# EAGLE library part XC2C32A-VQ44/CP56 (library kmod-xilinx)
XC2C32A, with support for the VQ44 and CP56 footprints
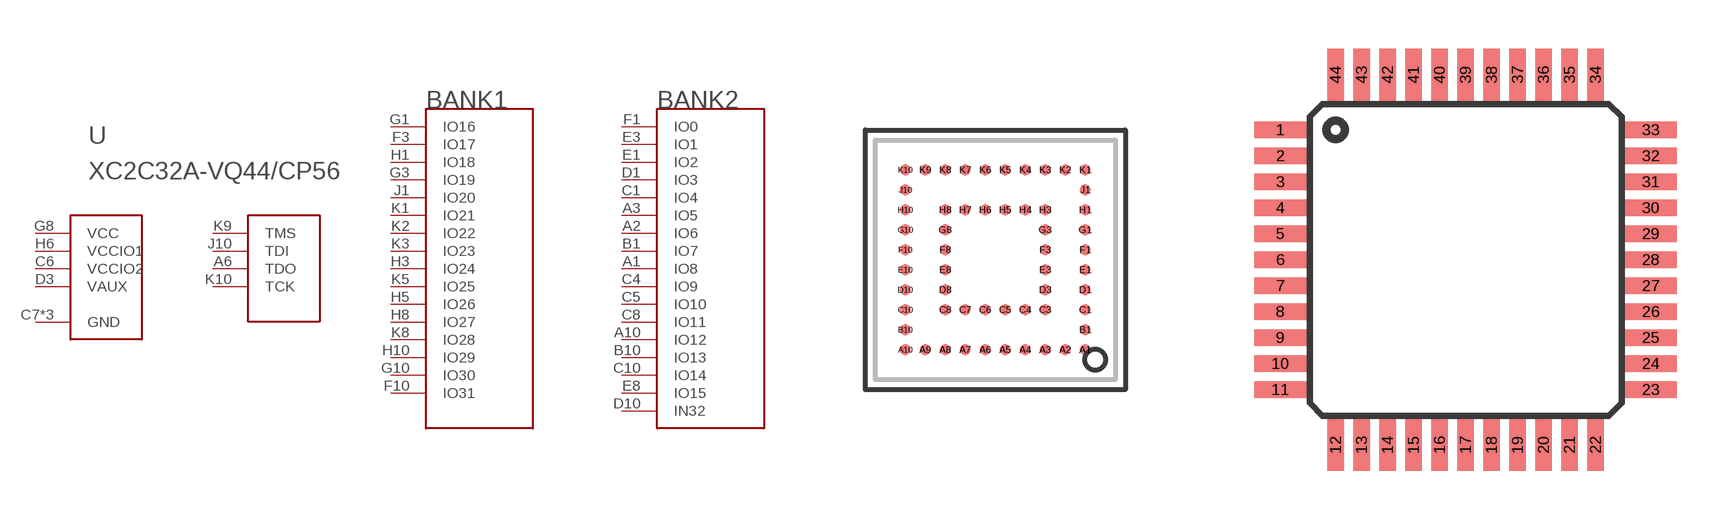
[diagram p0: symbol with the pads of XILINX_CP56; footprints XILINX_CP56, XILINX_VQ44]

Designator prefix -

## XC2C32A-VQ44/CP56CP56  [XILINX_CP56]
A1  IO8
A2  IO6
A3  IO5
A6  TDO
A10  IO12
B1  IO7
B10  IO13
C1  IO4
C4  IO9
C5  IO10
C6  VCCIO2
C7  GND
C8  IO11
C10  IO14
D1  IO3
D3  VAUX
D10  IN32
E1  IO2
E3  IO1
E8  IO15
F1  IO0
F3  IO17
F8  GND
F10  IO31
G1  IO16
G3  IO19
G8  VCC
G10  IO30
H1  IO18
H3  IO24
H4  GND
H5  IO26
H6  VCCIO1
H8  IO27
H10  IO29
J1  IO20
J10  TDI
K1  IO21
K2  IO22
K3  IO23
K5  IO25
K8  IO28
K9  TMS
K10  TCK

## XC2C32A-VQ44/CP56VQ44  [XILINX_VQ44]
1  IO22
2  IO23
3  IO24
4  GND
5  IO25
6  IO26
7  VCCIO1
8  IO27
9  TDI
10  TMS
11  TCK
12  IO28
13  IO29
14  IO30
15  VCC
16  IO31
17  GND
18  IN32
19  IO15
20  IO14
21  IO13
22  IO12
23  IO11
24  TDO
25  GND
26  VCCIO2
27  IO10
28  IO9
29  IO8
30  IO7
31  IO6
32  IO5
33  IO4
34  IO3
35  VAUX
36  IO2
37  IO1
38  IO0
39  IO16
40  IO17
41  IO18
42  IO19
43  IO20
44  IO21

## Footprint XILINX_CP56 (pad centres in mm)
Xilinx 0.5mm-pitch 56-pin BGA http://www.xilinx.com/support/documentation/user_guides/ug112.pdf, page 88
smd 0.27 x 0.27: A1 2.25,-2.25; A2 1.75,-2.25; A3 1.25,-2.25; A4 0.75,-2.25; A5 0.25,-2.25; A6 -0.25,-2.25; A7 -0.75,-2.25; A8 -1.25,-2.25; A9 -1.75,-2.25; A10 -2.25,-2.25; B1 2.25,-1.75; B10 -2.25,-1.75; C1 2.25,-1.25; C3 1.25,-1.25; C4 0.75,-1.25; C5 0.25,-1.25; C6 -0.25,-1.25; C7 -0.75,-1.25; C8 -1.25,-1.25; C10 -2.25,-1.25; D1 2.25,-0.75; D3 1.25,-0.75; D8 -1.25,-0.75; D10 -2.25,-0.75; E1 2.25,-0.25; E3 1.25,-0.25; E8 -1.25,-0.25; E10 -2.25,-0.25; F1 2.25,0.25; F3 1.25,0.25; F8 -1.25,0.25; F10 -2.25,0.25; G1 2.25,0.75; G3 1.25,0.75; G8 -1.25,0.75; G10 -2.25,0.75; H1 2.25,1.25; H3 1.25,1.25; H4 0.75,1.25; H5 0.25,1.25; H6 -0.25,1.25; H7 -0.75,1.25; H8 -1.25,1.25; H10 -2.25,1.25; J1 2.25,1.75; J10 -2.25,1.75; K1 2.25,2.25; K2 1.75,2.25; K3 1.25,2.25; K4 0.75,2.25; K5 0.25,2.25; K6 -0.25,2.25; K7 -0.75,2.25; K8 -1.25,2.25; K9 -1.75,2.25; K10 -2.25,2.25

## Footprint XILINX_VQ44 (pad centres in mm)
Xilinx 0.8mm-pitch, 44-pin TQFP Got the footprint from ref-packages-longpads, and modified according to the Xilinx guide http://www.xilinx.com/support/documentation/user_guides/ug112.pdf
smd 1.6 x 0.5: 1 -5.7,4; 2 -5.7,3.2; 3 -5.7,2.4; 4 -5.7,1.6; 5 -5.7,0.8; 6 -5.7,0; 7 -5.7,-0.8; 8 -5.7,-1.6; 9 -5.7,-2.4; 10 -5.7,-3.2; 11 -5.7,-4; 23 5.7,-4; 24 5.7,-3.2; 25 5.7,-2.4; 26 5.7,-1.6; 27 5.7,-0.8; 28 5.7,0; 29 5.7,0.8; 30 5.7,1.6; 31 5.7,2.4; 32 5.7,3.2; 33 5.7,4
smd 0.5 x 1.6: 12 -4,-5.7; 13 -3.2,-5.7; 14 -2.4,-5.7; 15 -1.6,-5.7; 16 -0.8,-5.7; 17 0,-5.7; 18 0.8,-5.7; 19 1.6,-5.7; 20 2.4,-5.7; 21 3.2,-5.7; 22 4,-5.7; 34 4,5.7; 35 3.2,5.7; 36 2.4,5.7; 37 1.6,5.7; 38 0.8,5.7; 39 0,5.7; 40 -0.8,5.7; 41 -1.6,5.7; 42 -2.4,5.7; 43 -3.2,5.7; 44 -4,5.7